# Altium schematic symbol library CUI_CRJ011-ML3-TH.SchLib: 1 symbol
Pins are listed as number, name and electrical type; pins without a type are passive.

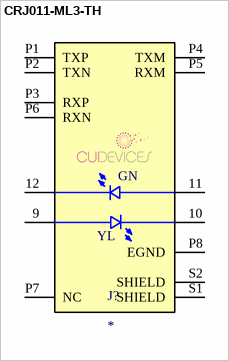
[diagram p0: symbol CRJ011-ML3-TH]

## CRJ011-ML3-TH
designator J?
Modular Jack; MP: CRJ011-ML3-TH; Availability: Unavailable; Package: None; Price: None; Value: *
footprint CUI_CRJ011-ML3-TH
pins: 9, 10, 11, 12, P1 TXP, P2 TXN, P3 RXP, P4 TXM, P5 RXM, P6 RXN, P7 NC, P8 EGND, S1 SHIELD, S2 SHIELD
text: GN; YL